# Altium schematic symbol library Common.SCHLIB: 127 symbols
Pins are listed as number, name and electrical type; pins without a type are passive.

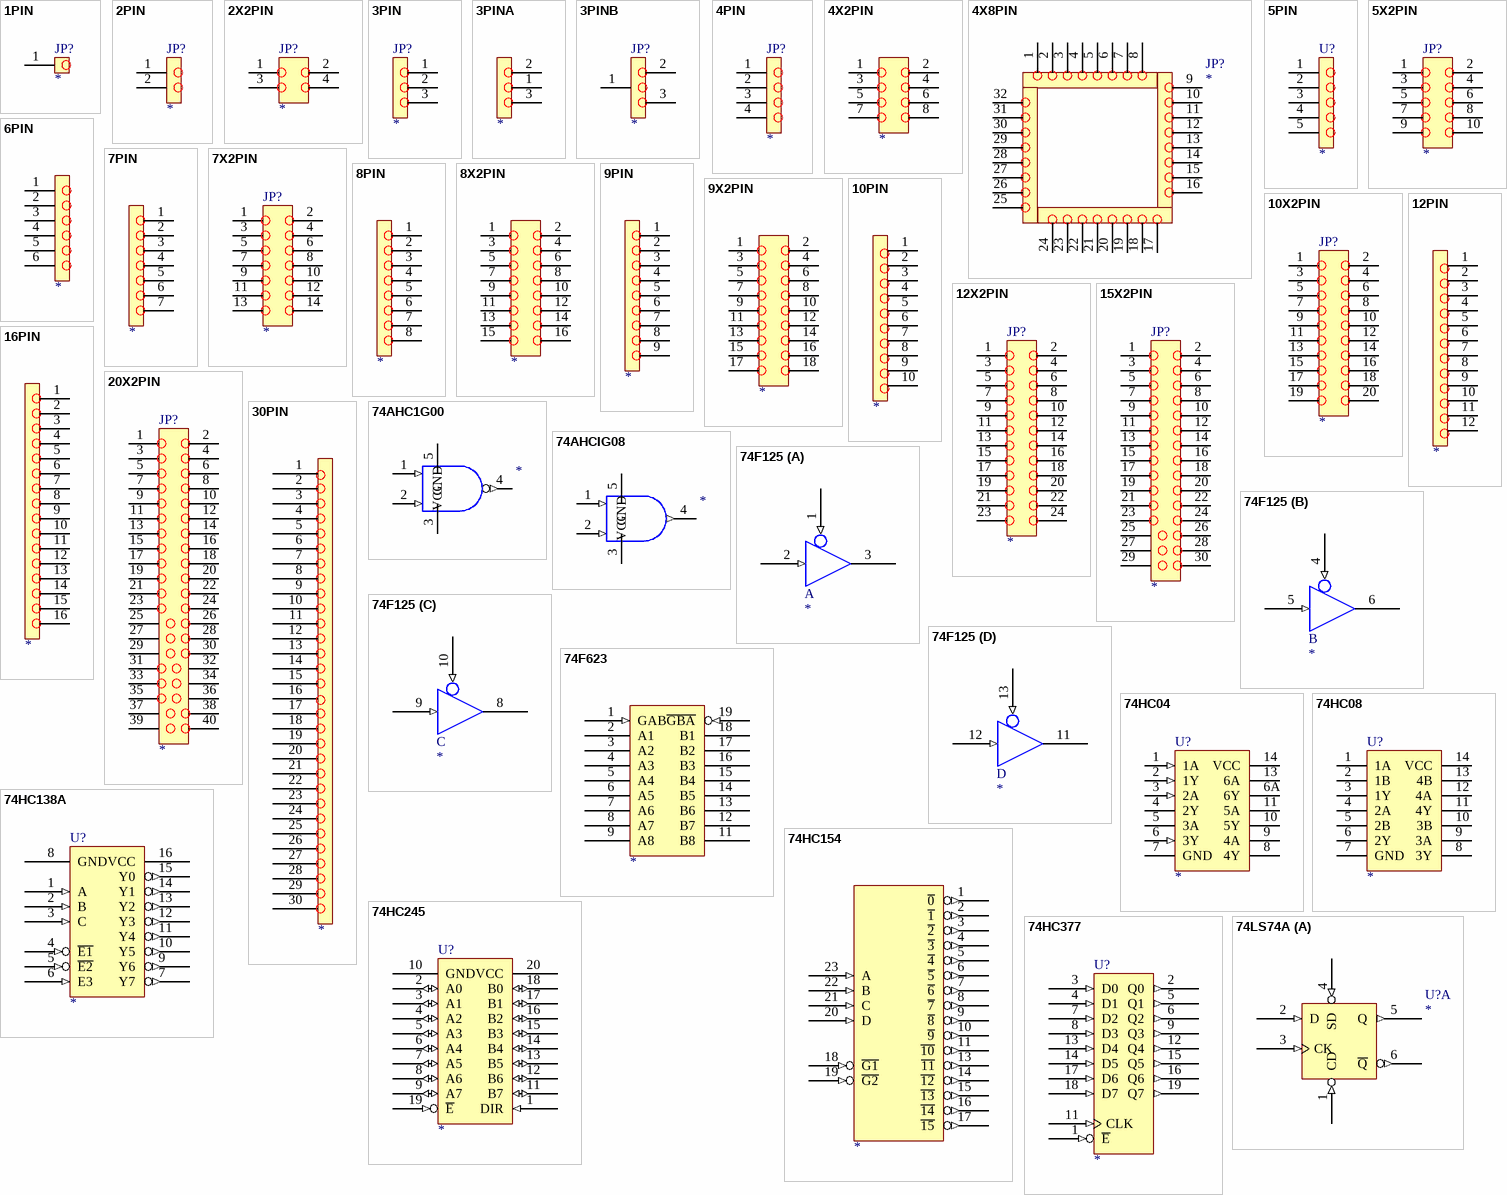
[diagram p0: symbols 1PIN to 74LS74A]

## 1PIN
designator JP?
footprint SIP1
footprint SIP1-A
footprint SIP1-B
pins: 1

## 2PIN
designator JP?
footprint SIP2
footprint SIP2-A
footprint SIP2-K
pins: 1, 2

## 2X2PIN
designator JP?
footprint SIP2X2
footprint SIP2X2-A6
pins: 1, 2, 3, 4

## 3PIN
designator JP?
footprint SIP3
footprint SIP3-A
pins: 1, 2, 3

## 3PINA
designator ?
footprint SIP3-A
pins: 1, 2, 3

## 3PINB
designator JP?
footprint SIP3-B
footprint LINK3-30
pins: 1, 2, 3

## 4PIN
designator JP?
footprint SIP4
pins: 1, 2, 3, 4

## 4X2PIN
designator ?
footprint SIP4X2A
footprint SIP4X2B
pins: 1, 2, 3, 4, 5, 6, 7, 8

## 4X8PIN
designator JP?
footprint SIP4X8
pins: 1, 2, 3, 4, 5, 6, 7, 8, 9, 10, 11, 12, 13, 14, 15, 16, 17, 18, 19, 20, 21, 22, 23, 24, 25, 26, 27, 28, 29, 30, 31, 32

## 5PIN
designator U?
footprint SIP5
pins: 1, 2, 3, 4, 5

## 5X2PIN
designator JP?
footprint SIP5X2
footprint DOWNLOAD
footprint DOWNLOAD_S
footprint DOWNLOAD_RC
pins: 1, 2, 3, 4, 5, 6, 7, 8, 9, 10

## 6PIN
designator ?
footprint SIP6
pins: 1, 2, 3, 4, 5, 6

## 7PIN
designator ?
footprint SIP7
pins: 1, 2, 3, 4, 5, 6, 7

## 7X2PIN
designator JP?
footprint SIP7X2
footprint DOWNLOAD-14
pins: 1, 2, 3, 4, 5, 6, 7, 8, 9, 10, 11, 12, 13, 14

## 8PIN
designator ?
footprint SIP8
pins: 1, 2, 3, 4, 5, 6, 7, 8

## 8X2PIN
designator ?
footprint SIP8X2
pins: 1, 2, 3, 4, 5, 6, 7, 8, 9, 10, 11, 12, 13, 14, 15, 16

## 9PIN
designator ?
footprint SIP9
pins: 1, 2, 3, 4, 5, 6, 7, 8, 9

## 9X2PIN
designator ?
footprint SIP9X2
pins: 1, 2, 3, 4, 5, 6, 7, 8, 9, 10, 11, 12, 13, 14, 15, 16, 17, 18

## 10PIN
designator ?
footprint SIP10
pins: 1, 2, 3, 4, 5, 6, 7, 8, 9, 10

## 10X2PIN
designator JP?
footprint SIP10X2
footprint DOWNLOAD-20
pins: 1, 2, 3, 4, 5, 6, 7, 8, 9, 10, 11, 12, 13, 14, 15, 16, 17, 18, 19, 20

## 12PIN
designator ?
footprint SIP12
pins: 1, 2, 3, 4, 5, 6, 7, 8, 9, 10, 11, 12

## 12X2PIN
designator JP?
footprint SIP12X2
pins: 1, 2, 3, 4, 5, 6, 7, 8, 9, 10, 11, 12, 13, 14, 15, 16, 17, 18, 19, 20, 21, 22, 23, 24

## 15X2PIN
designator JP?
footprint SIP15X2
pins: 1, 2, 3, 4, 5, 6, 7, 8, 9, 10, 11, 12, 13, 14, 15, 16, 17, 18, 19, 20, 21, 22, 23, 24, 25, 26, 27, 28, 29, 30

## 16PIN
designator ?
footprint SIP16
pins: 1, 2, 3, 4, 5, 6, 7, 8, 9, 10, 11, 12, 13, 14, 15, 16

## 20X2PIN
designator JP?
footprint SIP20X2
pins: 1, 2, 3, 4, 5, 6, 7, 8, 9, 10, 11, 12, 13, 14, 15, 16, 17, 18, 19, 20, 21, 22, 23, 24, 25, 26, 27, 28, 29, 30, 31, 32, 33, 34, 35, 36, 37, 38, 39, 40

## 30PIN
designator ?
footprint SIP30
pins: 1, 2, 3, 4, 5, 6, 7, 8, 9, 10, 11, 12, 13, 14, 15, 16, 17, 18, 19, 20, 21, 22, 23, 24, 25, 26, 27, 28, 29, 30

## 74AHC1G00
designator ?
footprint SOP-5
pins: 1 (in), 2 (in), 3 GND, 4 (out), 5 VCC (power)

## 74AHCIG08
designator ?
footprint SOP-5
pins: 1 (in), 2 (in), 3 GND (power), 4 (out), 5 VCC (power)

## 74F125
designator ?
footprint DIP-14
part A pins: 1 (in), 2 (in), 3 (hiz), 7 GND (power) hidden to GND, 14 VCC (power) hidden to VCC
part B pins: 4 (in), 5 (in), 6 (hiz), 7 GND (power) hidden to GND, 14 VCC (power) hidden to VCC
part C pins: 7 GND (power) hidden to GND, 8 (hiz), 9 (in), 10 (in), 14 VCC (power) hidden to VCC
part D pins: 7 GND (power) hidden to GND, 11 (hiz), 12 (in), 13 (in), 14 VCC (power) hidden to VCC

## 74F623
designator ?
footprint DIP-20
pins: 1 GAB (in), 2 A1 (hiz), 3 A2 (hiz), 4 A3 (hiz), 5 A4 (hiz), 6 A5 (hiz), 7 A6 (hiz), 8 A7 (hiz), 9 A8 (hiz), 11 B8 (hiz), 12 B7 (hiz), 13 B6 (hiz), 14 B5 (hiz), 15 B4 (hiz), 16 B3 (hiz), 17 B2 (hiz), 18 B1 (hiz), 19 ~{GBA} (in)

## 74HC04
designator U?
footprint DIP-14
footprint SO-14
pins: 1 1A (in), 2 1Y (in), 3 2A (in), 4 2Y, 5 3A, 6 3Y (in), 6A 6Y, 7 GND, 8 4Y, 9 4A, 10 5Y, 11 5A, 13 6A, 14 VCC

## 74HC08
designator U?
footprint DIP-14
footprint SO-14
pins: 1 1A, 2 1B, 3 1Y, 4 2A, 5 2B, 6 2Y, 7 GND, 8 3Y, 9 3A, 10 3B, 11 4Y, 12 4A, 13 4B, 14 VCC

## 74HC138A
designator U?
footprint DIP-16
footprint SO-16
footprint SSOP-16
pins: 1 A (in), 2 B (in), 3 C (in), 4 ~{E1} (in), 5 ~{E2} (in), 6 E3 (in), 7 Y7 (out), 8 GND, 9 Y6 (out), 10 Y5 (out), 11 Y4 (out), 12 Y3 (out), 13 Y2 (out), 14 Y1 (out), 15 Y0 (out), 16 VCC

## 74HC154
designator ?
footprint DIP24
footprint SOP-24
pins: 1 ~{0} (out), 2 ~{1} (out), 3 ~{2} (out), 4 ~{3} (out), 5 ~{4} (out), 6 ~{5} (out), 7 ~{6} (out), 8 ~{7} (out), 9 ~{8} (out), 10 ~{9} (out), 11 ~{10} (out), 13 ~{11} (out), 14 ~{12} (out), 15 ~{13} (out), 16 ~{14} (out), 17 ~{15} (out), 18 ~{G1} (in), 19 ~{G2} (in), 20 D (in), 21 C (in), 22 B (in), 23 A (in)

## 74HC245
designator U?
footprint SOJ_X20T
footprint DIP20
footprint SSOP20
footprint SO20
pins: 1 DIR (in), 2 A0 (io), 3 A1 (io), 4 A2 (io), 5 A3 (io), 6 A4 (io), 7 A5 (io), 8 A6 (io), 9 A7 (io), 10 GND, 11 B7 (io), 12 B6 (io), 13 B5 (io), 14 B4 (io), 15 B3 (io), 16 B2 (io), 17 B1 (io), 18 B0 (io), 19 ~{E} (in), 20 VCC

## 74HC377
designator U?
footprint DIP20
footprint SOJ_X20T
pins: 1 ~{E} (in), 2 Q0 (out), 3 D0 (in), 4 D1 (in), 5 Q1 (out), 6 Q2 (out), 7 D2 (in), 8 D3 (in), 9 Q3 (out), 10 GND (power) hidden to GND, 11 CLK (in), 12 Q4 (out), 13 D4 (in), 14 D5 (in), 15 Q5 (out), 16 Q6 (out), 17 D6 (in), 18 D7 (in), 19 Q7 (out), 20 VCC (power) hidden to VCC

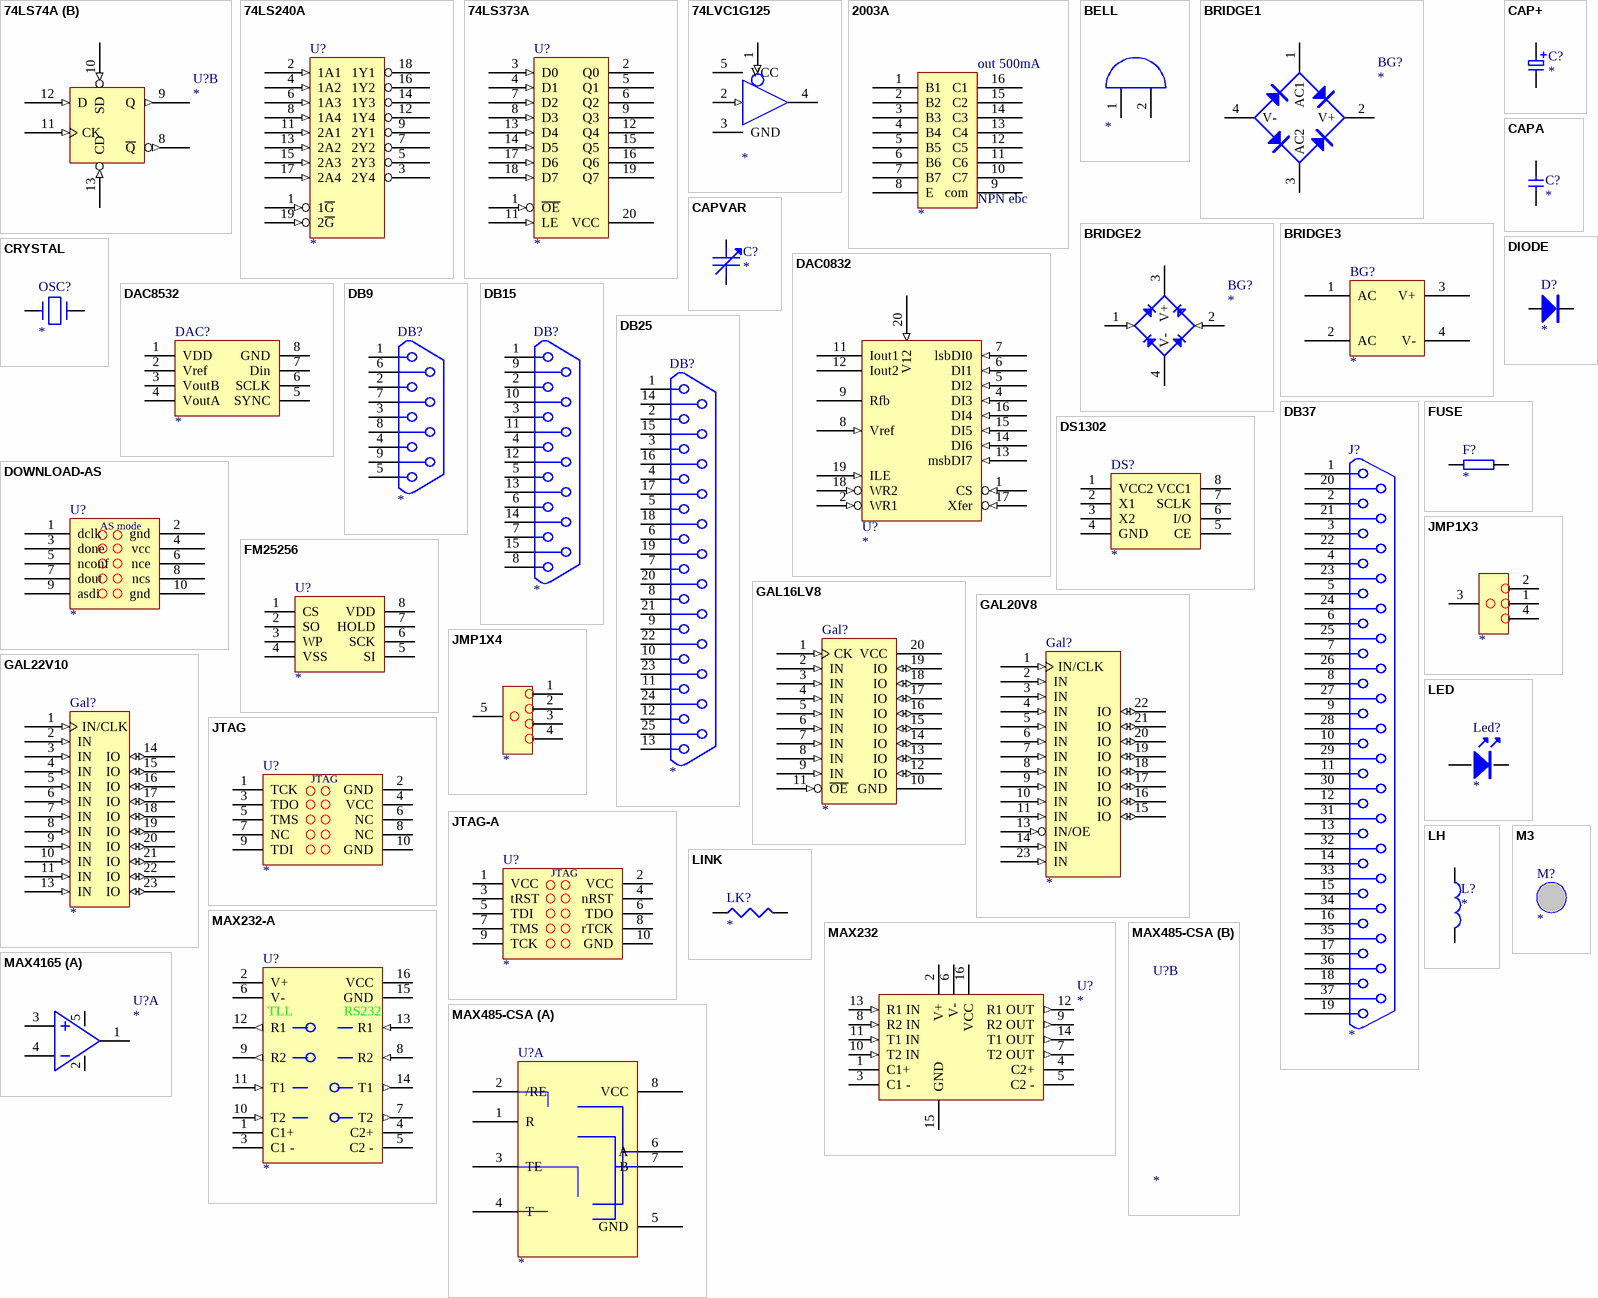
[diagram p1: symbols 74LS74A to MAX4165]

## 74LS74A
designator U?
footprint DIP14
part A pins: 1 CD (in), 2 D (in), 3 CK (in), 4 SD (in), 5 Q (out), 6 ~{Q} (out), 7 GND (power) hidden to GND, 14 VCC (power) hidden to VCC
part B pins: 7 GND (power) hidden to GND, 8 ~{Q} (out), 9 Q (out), 10 SD (in), 11 CK (in), 12 D (in), 13 CD (in), 14 VCC (power) hidden to VCC

## 74LS240A
designator U?
footprint DIP16
pins: 1 1~{G} (in), 2 1A1 (in), 3 2Y4 (hiz), 4 1A2 (in), 5 2Y3 (hiz), 6 1A3 (in), 7 2Y2 (hiz), 8 1A4 (in), 9 2Y1 (hiz), 10 GND (power) hidden to GND, 11 2A1 (in), 12 1Y4 (hiz), 13 2A2 (in), 14 1Y3 (hiz), 15 2A3 (in), 16 1Y2 (hiz), 17 2A4 (in), 18 1Y1 (hiz), 19 2~{G} (in), 20 VCC (power) hidden to VCC

## 74LS373A
designator U?
footprint DIP20
pins: 1 ~{OE} (in), 2 Q0 (hiz), 3 D0 (in), 4 D1 (in), 5 Q1 (hiz), 6 Q2 (hiz), 7 D2 (in), 8 D3 (in), 9 Q3 (hiz), 10 GND (power) hidden to GND, 11 LE (in), 12 Q4 (hiz), 13 D4 (in), 14 D5 (in), 15 Q5 (hiz), 16 Q6 (hiz), 17 D6 (in), 18 D7 (in), 19 Q7 (hiz), 20 VCC (power)

## 74LVC1G125
designator ?
footprint SOP-5
pins: 1 (in), 2 (in), 3 GND (power), 4 (hiz), 5 VCC

## 2003A
designator ?
footprint DIP16
footprint SO-16
pins: 1 B1, 2 B2, 3 B3, 4 B4, 5 B5, 6 B6, 7 B7, 8 E (power), 9 com, 10 C7, 11 C6, 12 C5, 13 C4, 14 C3, 15 C2, 16 C1
text: out 500mA; NPN ebc

## BELL
designator ?
footprint Bell
pins: 1, 2

## BRIDGE1
designator BG?
Diode Bridge
footprint BRIDGE1
pins: 1 AC1, 2 V+, 3 AC2, 4 V-

## BRIDGE2
designator BG?
footprint DIP4
pins: 1 AC1 (in), 2 AC2 (in), 3 V+, 4 V-

## BRIDGE3
designator BG?
pins: 1 AC, 2 AC, 3 V+, 4 V-

## CAP+
designator C?
footprint CP+140
footprint CP+180
footprint CP+200
footprint CP+240
pins: 1, 2

## CAPA
designator C?
footprint RC100
footprint RC80
footprint 0805
pins: 1, 2

## CAPVAR
designator C?
footprint RC100
footprint RC80
footprint 0805
footprint RC60
pins: 1, 2

## CRYSTAL
designator OSC?
footprint OSC200
footprint OSC100
pins: 1, 2

## DAC0832
designator U?
footprint DIP20
pins: 1 CS (in), 2 WR1 (in), 3 GND (power) hidden to GND, 4 DI3 (in), 5 DI2 (in), 6 DI1 (in), 7 lsbDI0 (in), 8 Vref (in), 9 Rfb, 10 GND (power) hidden to GND, 11 Iout1, 12 Iout2, 13 msbDI7 (in), 14 DI6 (in), 15 DI5 (in), 16 DI4 (in), 17 Xfer (in), 18 WR2 (in), 19 ILE (in), 20 V12 (in)

## DAC8532
designator DAC?
footprint MSOP-8
pins: 1 VDD (power), 2 Vref, 3 VoutB, 4 VoutA, 5 SYNC, 6 SCLK, 7 Din, 8 GND (power)

## DB9
designator DB?
footprint DB-9RA/F
footprint DB-9RA/M
pins: 1, 2, 3, 4, 5, 6, 7, 8, 9

## DB15
designator DB?
footprint DB-15RA/F
footprint DB-15RA/M
pins: 1, 2, 3, 4, 5, 6, 7, 8, 9, 10, 11, 12, 13, 14, 15

## DB25
designator DB?
footprint DB-25RA/F
footprint DB-25RA/M
pins: 1, 2, 3, 4, 5, 6, 7, 8, 9, 10, 11, 12, 13, 14, 15, 16, 17, 18, 19, 20, 21, 22, 23, 24, 25

## DB37
designator J?
footprint DB-37RA/F
footprint DB-37RA/M
pins: 1, 2, 3, 4, 5, 6, 7, 8, 9, 10, 11, 12, 13, 14, 15, 16, 17, 18, 19, 20, 21, 22, 23, 24, 25, 26, 27, 28, 29, 30, 31, 32, 33, 34, 35, 36, 37

## DIODE
designator D?
footprint D200
footprint DC140
footprint DC200
footprint D240
pins: A, K

## DOWNLOAD-AS
designator U?
footprint DOWNLOAD
footprint DOWNLOAD_S
pins: 1 dclk, 2 gnd, 3 done, 4 vcc, 5 nconf, 6 nce, 7 dout, 8 ncs, 9 asdi, 10 gnd
text: AS mode

## DS1302
designator DS?
footprint SO-8-197
footprint DIP-8
pins: 1 VCC2, 2 X1, 3 X2, 4 GND, 5 CE, 6 I/O, 7 SCLK, 8 VCC1

## FM25256
designator U?
footprint SO-8_220
pins: 1 CS, 2 SO, 3 WP, 4 VSS, 5 SI, 6 SCK, 7 HOLD, 8 VDD

## FUSE
designator F?
footprint 0805
footprint 1206
footprint FUSE-1
footprint FUSE-2
pins: 1, 2

## GAL16LV8
designator Gal?
ZERO-POWER 20-PIN EE CMOS UNIVERSAL PAL
footprint DIP20
footprint LLC20
footprint PLLC20
pins: 1 CK (in), 2 IN (in), 3 IN (in), 4 IN (in), 5 IN (in), 6 IN (in), 7 IN (in), 8 IN (in), 9 IN (in), 10 GND, 11 ~{OE} (in), 12 IO (io), 13 IO (io), 14 IO (io), 15 IO (io), 16 IO (io), 17 IO (io), 18 IO (io), 19 IO (io), 20 VCC

## GAL20V8
designator Gal?
EE CMOS 24-PIN UNIVERSAL PAL
footprint DIP24
pins: 1 IN/CLK (in), 2 IN (in), 3 IN (in), 4 IN (in), 5 IN (in), 6 IN (in), 7 IN (in), 8 IN (in), 9 IN (in), 10 IN (in), 11 IN (in), 12 GND (power) hidden to GND, 13 IN/OE (in), 14 IN (in), 15 IO (io), 16 IO (io), 17 IO (io), 18 IO (io), 19 IO (io), 20 IO (io), 21 IO (io), 22 IO (io), 23 IN (in), 24 VCC (power) hidden to VCC

## GAL22V10
designator Gal?
HIGH PERFORMANCE E2CMOS PLD GENERIC ARRAY LOGIC
footprint DIP24
footprint CDIP24
pins: 1 IN/CLK (in), 2 IN (in), 3 IN (in), 4 IN (in), 5 IN (in), 6 IN (in), 7 IN (in), 8 IN (in), 9 IN (in), 10 IN (in), 11 IN (in), 12 GND (power) hidden to GND, 13 IN (in), 14 IO (io), 15 IO (io), 16 IO (io), 17 IO (io), 18 IO (io), 19 IO (io), 20 IO (io), 21 IO (io), 22 IO (io), 23 IO (io), 24 VCC (power) hidden to VCC

## JMP1X3
designator ?
footprint JMP1X3
pins: 1, 2, 3, 4

## JMP1X4
designator ?
footprint JMP1X4
pins: 1, 2, 3, 4, 5

## JTAG
designator U?
footprint DOWNLOAD
footprint DOWNLOAD_RC
footprint DOWNLOAD_S
pins: 1 TCK, 2 GND, 3 TDO, 4 VCC, 5 TMS, 6 NC, 7 NC, 8 NC, 9 TDI, 10 GND

## JTAG-A
designator U?
footprint DOWNLOAD
footprint DOWNLOAD_S
footprint DOWNLOAD_RC
pins: 1 VCC, 2 VCC, 3 tRST, 4 nRST, 5 TDI, 6 TDO, 7 TMS, 8 rTCK, 9 TCK, 10 GND
text: JTAG

## LED
designator Led?
footprint LED
footprint LED100
footprint LED150
pins: A, K

## LH
designator L?
footprint 1206
footprint RC140
footprint RC100
footprint 0805
pins: 1, 2

## LINK
designator LK?
footprint LINK-30
footprint RC100-150
footprint LINK-8
footprint LINK-10
pins: 1, 2

## M3
designator M?
footprint M3

## MAX232
designator U?
footprint SO-16
footprint DIP-16
pins: 1 C1+, 2 V+ (power), 3 C1 -, 4 C2+, 5 C2 -, 6 V- (power), 7 T2 OUT (out), 8 R2 IN (in), 9 R2 OUT (out), 10 T2 IN (in), 11 T1 IN (in), 12 R1 OUT (out), 13 R1 IN (in), 14 T1 OUT (out), 15 GND (power), 16 VCC (power)

## MAX232-A
designator U?
footprint SO-16
footprint DIP-16
pins: 1 C1+, 2 V+ (power), 3 C1 -, 4 C2+, 5 C2 -, 6 V- (power), 7 T2 (out), 8 R2 (in), 9 R2 (out), 10 T2 (in), 11 T1 (in), 12 R1 (out), 13 R1 (in), 14 T1 (out), 15 GND (power), 16 VCC (power)
text: TLL; RS232

## MAX485-CSA
designator U?
footprint DIP8
footprint SO-8_220
part A pins: 1 R, 2 /RE, 3 TE, 4 T, 5 GND, 6 A, 7 B, 8 VCC

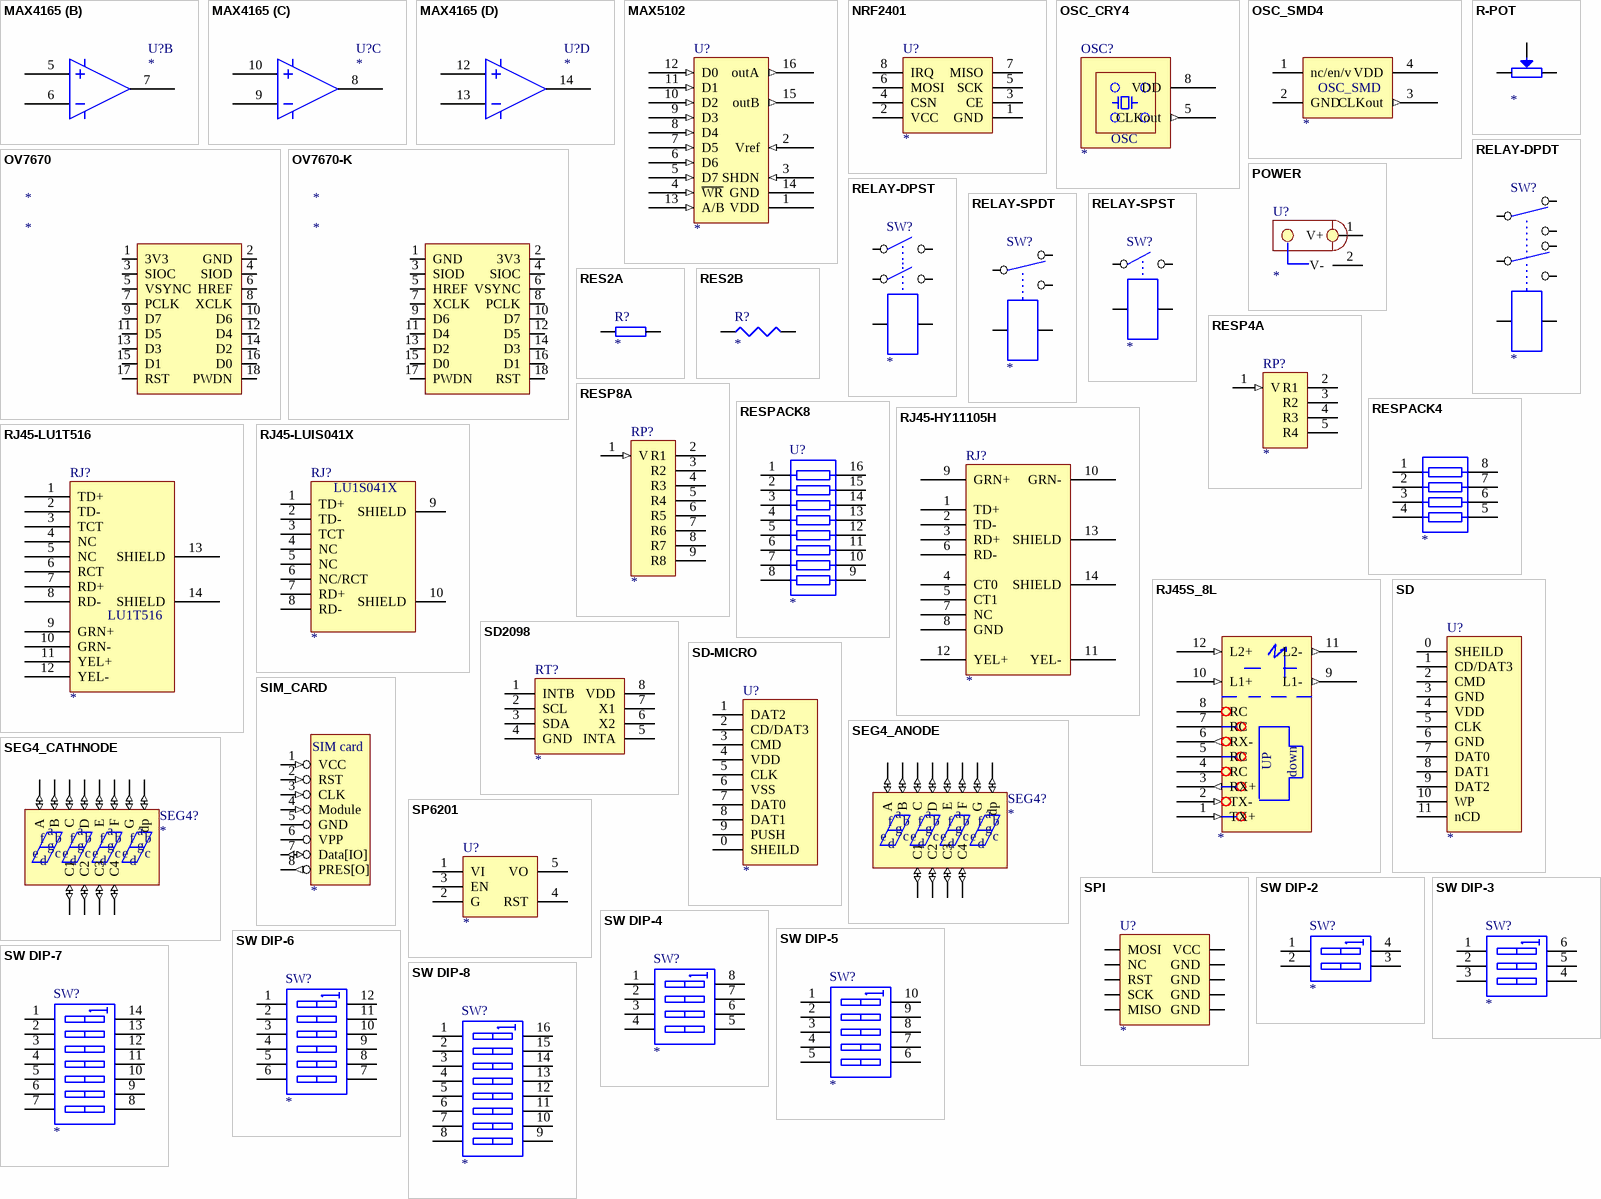
[diagram p2: symbols MAX4165 to SW DIP-8]

## MAX4165
designator U?
footprint SOT-23-5A
part A pins: 1, 2, 3, 4, 5
part B pins: 5, 6, 7
part C pins: 8, 9, 10
part D pins: 12, 13, 14

## MAX5102
designator U?
footprint TSSOP16
pins: 1 VDD, 2 Vref (in), 3 SHDN (in), 4 ~{WR} (in), 5 D7 (in), 6 D6 (in), 7 D5 (in), 8 D4 (in), 9 D3 (in), 10 D2 (in), 11 D1 (in), 12 D0 (in), 13 A/B (in), 14 GND, 15 outB (out), 16 outA (out)

## NRF2401
designator U?
footprint NRF2401
pins: 1 GND, 2 VCC, 3 CE, 4 CSN, 5 SCK, 6 MOSI, 7 MISO, 8 IRQ

## OSC_CRY4
designator OSC?
footprint DIP8
pins: 4 GND (power) hidden to GND, 5 CLKout (out), 8 VDD (power)
text: OSC

## OSC_SMD4
designator ?
footprint OSC_SMD4
pins: 1 nc/en/v, 2 GND (power), 3 CLKout (out), 4 VDD (power)
text: OSC_SMD

## OV7670
designator *
footprint SIP9X2
pins: 1 3V3, 2 GND, 3 SIOC, 4 SIOD, 5 VSYNC, 6 HREF, 7 PCLK, 8 XCLK, 9 D7, 10 D6, 11 D5, 12 D4, 13 D3, 14 D2, 15 D1, 16 D0, 17 RST, 18 PWDN

## OV7670-K
designator *
footprint SIP9X2
pins: 1 GND, 2 3V3, 3 SIOD, 4 SIOC, 5 HREF, 6 VSYNC, 7 XCLK, 8 PCLK, 9 D6, 10 D7, 11 D4, 12 D5, 13 D2, 14 D3, 15 D0, 16 D1, 17 PWDN, 18 RST

## POWER
designator U?
footprint POWER-L
footprint POWER-S
pins: 1 V+, 2 V-

## R-POT
designator ?
footprint RP100
pins: 1, 2, W

## RELAY-DPDT
designator SW?
footprint RELAY2X2
pins: 1, 2, 3, 4, 5, 6, 7, 8

## RELAY-DPST
designator SW?
footprint RELAY2X1
pins: 1, 2, 3, 4, 5, 6

## RELAY-SPDT
designator SW?
footprint RELAY1X2
pins: 1, 2, 3, 4, 5

## RELAY-SPST
designator SW?
footprint RELAY1X1
pins: 1, 2, 3, 4

## RES2A
designator R?
footprint 0805
footprint RC100
footprint R100
pins: 1, 2

## RES2B
designator R?
footprint R100
footprint 0805
footprint RC100
pins: 1, 2

## RESP4A
designator RP?
footprint SIP5
pins: 1 V (in), 2 R1, 3 R2, 4 R3, 5 R4

## RESP8A
designator RP?
footprint SIP9
pins: 1 V (in), 2 R1, 3 R2, 4 R3, 5 R4, 6 R5, 7 R6, 8 R7, 9 R8

## RESPACK4
designator ?
footprint RN4
pins: 1, 2, 3, 4, 5, 6, 7, 8

## RESPACK8
designator U?
footprint RN8
pins: 1, 2, 3, 4, 5, 6, 7, 8, 9, 10, 11, 12, 13, 14, 15, 16

## RJ45-HY11105H
designator RJ?
footprint RJ45-1
pins: 1 TD+, 2 TD-, 3 RD+, 4 CT0, 5 CT1, 6 RD-, 7 NC, 8 GND, 9 GRN+, 10 GRN-, 11 YEL-, 12 YEL+, 13 SHIELD, 14 SHIELD

## RJ45-LU1T516
designator RJ?
footprint RJ45-1
pins: 1 TD+, 2 TD-, 3 TCT, 4 NC, 5 NC, 6 RCT, 7 RD+, 8 RD-, 9 GRN+, 10 GRN-, 11 YEL+, 12 YEL-, 13 SHIELD, 14 SHIELD
text: LU1T516

## RJ45-LUIS041X
designator RJ?
footprint RJ45-2
pins: 1 TD+, 2 TD-, 3 TCT, 4 NC, 5 NC, 6 NC/RCT, 7 RD+, 8 RD-, 9 SHIELD, 10 SHIELD
text: LU1S041X

## RJ45S_8L
designator ?
footprint RJ45S_8L
pins: 1 TX+ (in), 2 TX- (in), 3 RX+ (out), 4 RC, 5 RC, 6 RX- (out), 7 RC, 8 RC, 9 L1- (out), 10 L1+ (in), 11 L2- (out), 12 L2+ (in), C GND (in) hidden to GND, D GND (in) hidden to GND
text: UP; down

## SD
designator U?
footprint SD-7
footprint SD-6
footprint SD-6-V
pins: 0 SHEILD, 1 CD/DAT3, 2 CMD, 3 GND, 4 VDD, 5 CLK, 6 GND, 7 DAT0, 8 DAT1, 9 DAT2, 10 WP, 11 nCD

## SD2098
designator RT?
footprint SOP-8_212
pins: 1 INTB, 2 SCL, 3 SDA, 4 GND, 5 INTA, 6 X2, 7 X1, 8 VDD

## SD-MICRO
designator U?
footprint TF-1
footprint TF-2
footprint TF-4
footprint TF-5
footprint TF-2-V
pins: 0 SHEILD, 1 DAT2, 2 CD/DAT3, 3 CMD, 4 VDD, 5 CLK, 6 VSS, 7 DAT0, 8 DAT1, 9 PUSH

## SEG4_ANODE
designator SEG4?
footprint SEG_50X19
footprint SEG_40X16
pins: 1 E (io), 2 D (io), 3 dp (io), 4 C (io), 5 G (io), 6 C1 (io), 7 B (io), 8 C2 (io), 9 C3 (io), 10 F (io), 11 A (io), 12 C4 (io)
text: a; f; b; g; e; c; d

## SEG4_CATHNODE
designator SEG4?
footprint TUBE4_50X19
footprint TUBE4_40X16
footprint TUBE4_30X14
pins: 1 E (io), 2 D (io), 3 dp (io), 4 C (io), 5 G (io), 6 C4 (io), 7 B (io), 8 C3 (io), 9 C2 (io), 10 F (io), 11 A (io), 12 C1 (io)
text: a; f; b; g; e; c; d

## SIM_CARD
designator ?
pins: 1 VCC (in), 2 RST (in), 3 CLK (in), 4 Module (in), 5 GND (power), 6 VPP, 7 Data[IO] (io), 8 PRES[O] (out)
text: SIM card

## SP6201
designator U?
footprint SOT-23-5A
pins: 1 VI, 2 G, 3 EN, 4 RST, 5 VO

## SPI
designator U?
footprint DOWNLOAD
footprint DOWNLOAD-S
footprint DOWNLOAD-RC
pins: 1 MOSI, 2 VCC, 3 NC, 4 GND, 5 RST, 6 GND, 7 SCK, 8 GND, 9 MISO, 10 GND

## SW DIP-2
designator SW?
DIP Switch
footprint SW-DIP2
pins: 1 A1, 2 A2, 3 B2, 4 B1

## SW DIP-3
designator SW?
DIP Switch
footprint SW-DIP3
pins: 1 A1, 2 A2, 3 A3, 4 B3, 5 B2, 6 B1

## SW DIP-4
designator SW?
DIP Switch
footprint SW-DIP4
pins: 1 A1, 2 A2, 3 A3, 4 A4, 5 B4, 6 B3, 7 B2, 8 B1

## SW DIP-5
designator SW?
DIP Switch
footprint SW-DIP5
pins: 1 A1, 2 A2, 3 A3, 4 A4, 5 A5, 6 B5, 7 B4, 8 B3, 9 B2, 10 B1

## SW DIP-6
designator SW?
DIP Switch
footprint SW-DIP6
pins: 1 A1, 2 A2, 3 A3, 4 A4, 5 A5, 6 A6, 7 B6, 8 B5, 9 B4, 10 B3, 11 B2, 12 B1

## SW DIP-7
designator SW?
DIP Switch
footprint SW-DIP7
pins: 1 A1, 2 A2, 3 A3, 4 A4, 5 A5, 6 A6, 7 A7, 8 B7, 9 B6, 10 B5, 11 B4, 12 B3, 13 B2, 14 B1

## SW DIP-8
designator SW?
DIP Switch
footprint SW-DIP8
pins: 1 A1, 2 A2, 3 A3, 4 A4, 5 A5, 6 A6, 7 A7, 8 A8, 9 B8, 10 B7, 11 B6, 12 B5, 13 B4, 14 B3, 15 B2, 16 B1

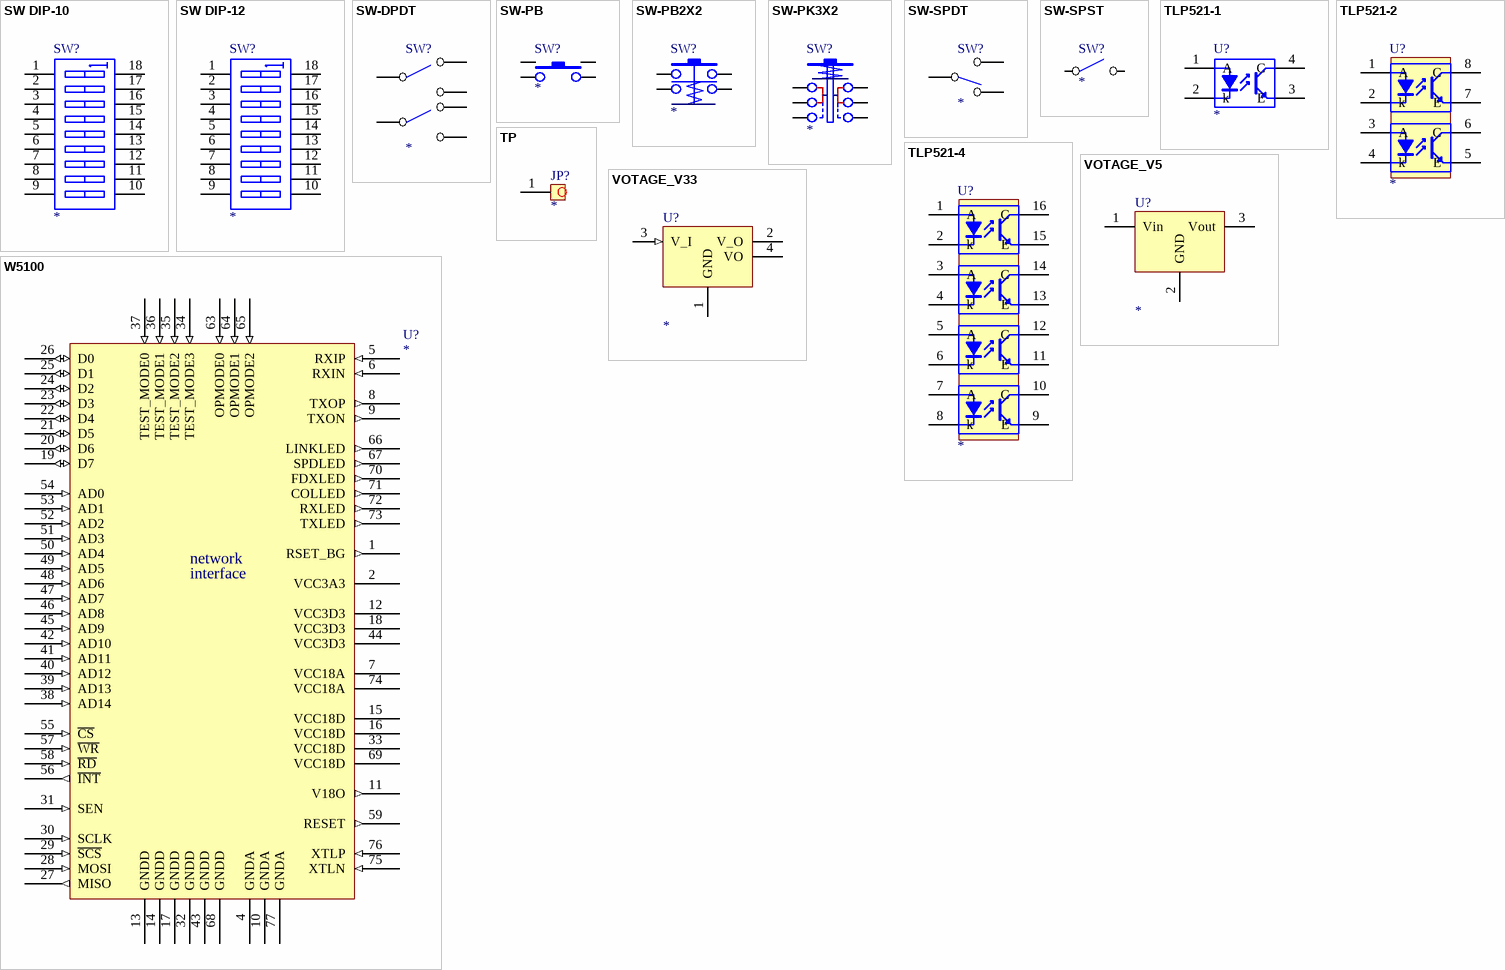
[diagram p3: symbols SW DIP-10 to W5100]

## SW DIP-10
designator SW?
DIP Switch
footprint SW-DIP10
pins: 1 A1, 2 A2, 3 A3, 4 A4, 5 A5, 6 A6, 7 A7, 8 A8, 9 A9, 10 B9, 11 B8, 12 B7, 13 B6, 14 B5, 15 B4, 16 B3, 17 B2, 18 B1

## SW DIP-12
designator SW?
DIP Switch
footprint SW-DIP12
pins: 1 A1, 2 A2, 3 A3, 4 A4, 5 A5, 6 A6, 7 A7, 8 A8, 9 A9, 10 B9, 11 B8, 12 B7, 13 B6, 14 B5, 15 B4, 16 B3, 17 B2, 18 B1

## SW-DPDT
designator SW?
footprint SW-DPDT
pins: 1, 2, 3, 4, 5, 6

## SW-PB
designator SW?
footprint SW-PB
pins: 1, 2, 3, 4

## SW-PB2X2
designator SW?
footprint SW-PB2X2
pins: 1, 2, 3, 4

## SW-PK3X2
designator SW?
footprint SW-PK3X2
pins: A1, A2, A3, B1, B2, B3

## SW-SPDT
designator SW?
footprint SW-SPDT
footprint SW-SPDTA
pins: 1, 2, 3

## SW-SPST
designator SW?
footprint SW-SPST
footprint SW-SPSTA
pins: 1, 2

## TLP521-1
designator U?
footprint DIP4
pins: 1 A, 2 k, 3 E, 4 C

## TLP521-2
designator U?
footprint DIP8
pins: 1 A, 2 k, 3 A, 4 k, 5 E, 6 C, 7 E, 8 C

## TLP521-4
designator U?
footprint DIP16
pins: 1 A, 2 k, 3 A, 4 k, 5 A, 6 k, 7 A, 8 k, 9 E, 10 C, 11 E, 12 C, 13 E, 14 C, 15 E, 16 C

## TP
designator JP?
footprint TEST
footprint SIP1
footprint TEST-A
pins: 1

## VOTAGE_V5
designator U?
footprint TO-263
footprint TO-220
footprint TO-220_3
pins: 1 Vin, 2 GND, 3 Vout

## VOTAGE_V33
designator U?
footprint SOT-223
pins: 1 GND (power), 2 V_O (power), 3 V_I (in), 4 VO

## W5100
designator U?
W5100
footprint QFP80
pins: 1 RSET_BG (out), 2 VCC3A3 (power), 4 GNDA (power), 5 RXIP (in), 6 RXIN (in), 7 VCC18A (power), 8 TXOP (out), 9 TXON (out), 10 GNDA (power), 11 V18O (out), 12 VCC3D3 (power), 13 GNDD (power), 14 GNDD (power), 15 VCC18D (power), 16 VCC18D (power), 17 GNDD (power), 18 VCC3D3 (power), 19 D7 (io), 20 D6 (io), 21 D5 (io), 22 D4 (io), 23 D3 (io), 24 D2 (io), 25 D1 (io), 26 D0 (io), 27 MISO (out), 28 MOSI (in), 29 ~{SCS} (in), 30 SCLK (in), 31 SEN (in), 32 GNDD (power), 33 VCC18D (power), 34 TEST_MODE3 (in), 35 TEST_MODE2 (in), 36 TEST_MODE1 (in), 37 TEST_MODE0 (in), 38 AD14 (in), 39 AD13 (in), 40 AD12 (in), 41 AD11 (in), 42 AD10 (in), 43 GNDD (power), 44 VCC3D3 (power), 45 AD9 (in), 46 AD8 (in), 47 AD7 (in), 48 AD6 (in), 49 AD5 (in), 50 AD4 (in), 51 AD3 (in), 52 AD2 (in), 53 AD1 (in), 54 AD0 (in), 55 ~{CS} (in), 56 ~{INT} (out), 57 ~{WR} (in), 58 ~{RD} (in), 59 RESET (out), 63 OPMODE0 (in), 64 OPMODE1 (in), 65 OPMODE2 (in), 66 LINKLED (out), 67 SPDLED (out), 68 GNDD (power), 69 VCC18D (power), 70 FDXLED (out), 71 COLLED (out), 72 RXLED (out), 73 TXLED (out), 74 VCC18A (power), 75 XTLN (in), 76 XTLP (in), 77 GNDA (power)
text: network; interface